# Altium footprint library 2019-03-20_20-29-51.PcbLib: 1 footprints
Each footprint in its own frame and in the unit in brackets; x right, y up, seen from the top. Pads: shape width x height; smd on the part's side, far side on the other; paste and mask are expansions set on the pad; w line width, h text height; cw(c..) or ccw(c..) is an arc to the next point about the centre after c.
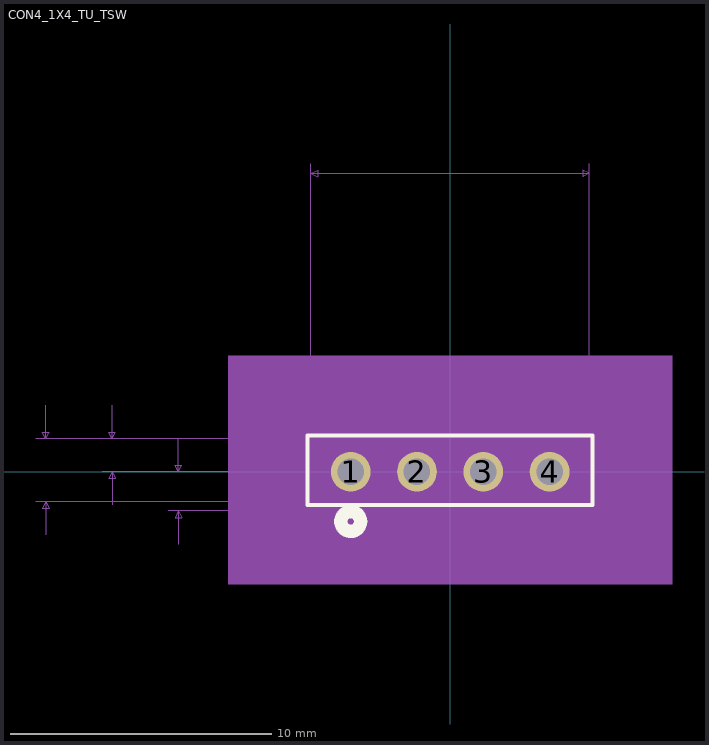
[diagram p0: the footprint, top view; thin cyan lines are the x and y axes]

## CON4_1X4_TU_TSW [mil]
pads (4):
  round 60 hole 40 mask+0: 1(-150,0) 2(-50,0) 3(50,0) 4(150,0)
Top Overlay:
  circle w20: c-150,-75 r15
  lines w6: -215,-50 215,-50 215,55 -215,55 -215,-50
Bottom Overlay:
  circle w20: c-150,-75 r15
Mechanical 5:
  region: -335,175 335,175 335,-170 -335,-170
Mechanical 7:
  lines w1: -625,-45 -210,-45 ; -625,50 -210,50 ; -610,-95 -610,-45 ; -610,100 -610,50 ; -525,0 0,0 ; -525,50 -210,50 ; -510,-50 -510,0 ; -510,100 -510,50 ; -425,-59 218.5,-59 -325,-59 ; -425,0 0,0 ; -410,-109 -410,-59 ; -410,50 -410,0 ; -325,0 0,0 ; -310,-109 -310,-59 ; -310,50 -310,0 ; -210,465 -210,50 ; -200,150 -150,150 ; -150,100 325,100 ; -150,165 -150,0 325,0 ; -50,0 -50,165 ; 0,150 -50,150 ; 210,50 210,465 ; 310,-50 310,0 ; 310,150 310,100 ; -610,-45 -615,-55 -605,-55 -610,-45 ; -610,50 -615,60 -605,60 -610,50 ; -510,0 -515,-10 -505,-10 -510,0 ; -510,50 -515,60 -505,60 -510,50 ; -410,-59 -415,-69 -405,-69 -410,-59 ; -410,0 -415,10 -405,10 -410,0 ; -310,-59 -315,-69 -305,-69 -310,-59 ; -310,0 -315,10 -305,10 -310,0 ; -210,450 210,450 ; -210,450 -200,455 -200,445 -210,450 ; -150,150 -160,155 -160,145 -150,150 ; -50,150 -40,155 -40,145 -50,150 ; 210,450 200,455 200,445 210,450 ; 310,0 305,-10 315,-10 310,0 ; 310,100 305,110 315,110 310,100
  text "Default Padstyle: c152h102" at -325,-195 h50
  text "Alt 1 Padstyle: b152_229h76" at -337.5,-245 h50
  text "Alt 2 Padstyle: b229_152h76" at -337.5,-295 h50
  text "0.1in/2.54mm" at -200,170 h25
  text "0.42in/10.668mm" at -93.75,470 h25
  text "0.1in/2.54mm" at 330,-12.5 h25
  text "-0.059in/-1.499mm" at -542.5,-42 h25
  text "-0.059in/-1.499mm" at -642.5,-42 h25
  text "0.05in/1.27mm" at -692.5,12.5 h25
  text "0.095in/2.413mm" at -817.5,12.5 h25
Mechanical 13:
  circle w0: c-150,0 r10
  lines w1: -210,-45 210,-45 210,50 -210,50 -210,-45
Mechanical 15:
  region: 220,60 200,60 200,102 -200,102 -200,60 -220,60 -220,-55 -200,-55 -200,-102 200,-102 200,-55 220,-55
  lines w6: -220,-55 -220,60 -200,60 -200,102 200,102 200,60 220,60 220,-55 200,-55 200,-102 -200,-102 -200,-55 -220,-55
3D body: height 10, standoff 0, extent 0,0 10,10